# Altium schematic symbol library MAX5805.SchLib: 1 symbol
Pins are listed as number, name and electrical type; pins without a type are passive.

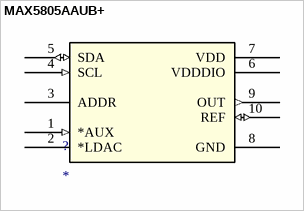
[diagram p0: symbol MAX5805AAUB+]

## MAX5805AAUB+
designator ?
Imported; Vendor: Maxim Integrated Products; C: Copyright (C) 2015 Accelerated Designs. All rights reserved; Copyright: Copyright (C) 2015 Accelerated Designs. All rights reserved; RefDes: RefDes; Type: DEV; Value: Value
footprint 21-0061L
pins: 1 *AUX (in), 2 *LDAC, 3 ADDR, 4 SCL (in), 5 SDA (io), 6 VDDDIO (power), 7 VDD (power), 8 GND (power), 9 OUT (out), 10 REF (io)